# Altium integrated library ALTIUM-SMSI_SMT_STEEL_SPACER_M3_THREAD_INTERNAL-rev16b.IntLib: 84 symbols
Pins are listed as number, name and electrical type; pins without a type are passive.

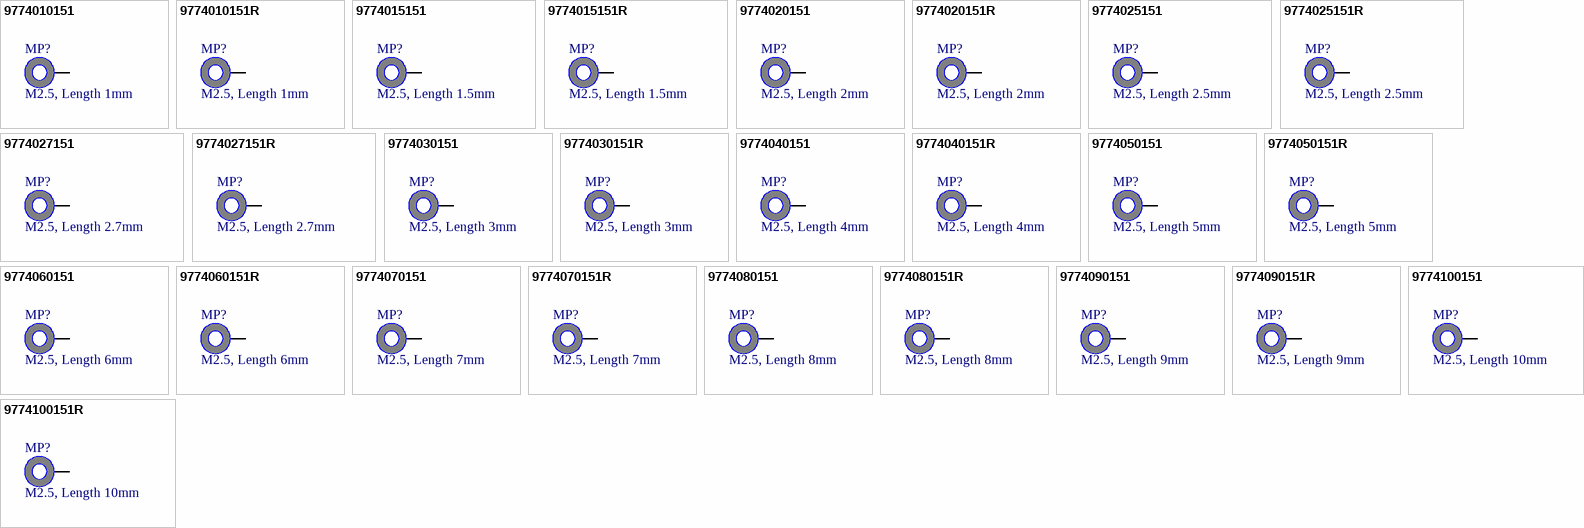
[diagram p0: symbols 9774010151 to 9774100151R]

## 9774010151
designator MP?, comment M2.5, Length 1mm
WA-SMSI SMT Steel Spacer, M2.5 Thread Internal, Length 1mm; PartNumber: 9774010151; InnerDiameter: 3.5mm; OuterDiameter: 5.1mm; PublishedDate: Dec. 2016; Publisher: Wurth Elektronik; ComponentLink1Description: Manufacturer; ComponentLink1URL: http://www.we-online.de; ComponentLink2Description: Datasheet; ComponentLink2URL: http://katalog.we-online.de/em/datasheet/9774010151.pdf; Length: 1mm; Thread: M2.5; Packaging: Bulk
footprint 9774010151
pins: 1

## 9774010151R
designator MP?, comment M2.5, Length 1mm
WA-SMSI SMT Steel Spacer, M2.5 Thread Internal, Length 1mm; PartNumber: 9774010151R; InnerDiameter: 3.5mm; OuterDiameter: 5.1mm; PublishedDate: Dec. 2016; Publisher: Wurth Elektronik; ComponentLink1Description: Manufacturer; ComponentLink1URL: http://www.we-online.de; ComponentLink2Description: Datasheet; ComponentLink2URL: http://katalog.we-online.de/em/datasheet/9774010151R.pdf; Length: 1mm; Thread: M2.5; Packaging: Tape and Reel
footprint 9774010151
pins: 1

## 9774015151
designator MP?, comment M2.5, Length 1.5mm
WA-SMSI SMT Steel Spacer, M2.5 Thread Internal, Length 1.5mm; PartNumber: 9774015151; InnerDiameter: 3.5mm; OuterDiameter: 5.1mm; PublishedDate: Dec. 2016; Publisher: Wurth Elektronik; ComponentLink1Description: Manufacturer; ComponentLink1URL: http://www.we-online.de; ComponentLink2Description: Datasheet; ComponentLink2URL: http://katalog.we-online.de/em/datasheet/9774015151.pdf; Length: 1.5mm; Thread: M2.5; Packaging: Bulk
footprint 9774015151
pins: 1

## 9774015151R
designator MP?, comment M2.5, Length 1.5mm
WA-SMSI SMT Steel Spacer, M2.5 Thread Internal, Length 1.5mm; PartNumber: 9774015151R; InnerDiameter: 3.5mm; OuterDiameter: 5.1mm; PublishedDate: Dec. 2016; Publisher: Wurth Elektronik; ComponentLink1Description: Manufacturer; ComponentLink1URL: http://www.we-online.de; ComponentLink2Description: Datasheet; ComponentLink2URL: http://katalog.we-online.de/em/datasheet/9774015151R.pdf; Length: 1.5mm; Thread: M2.5; Packaging: Tape and Reel
footprint 9774015151
pins: 1

## 9774020151
designator MP?, comment M2.5, Length 2mm
WA-SMSI SMT Steel Spacer, M2.5 Thread Internal, Length 2mm; PartNumber: 9774020151; InnerDiameter: 3.5mm; OuterDiameter: 5.1mm; PublishedDate: Dec. 2016; Publisher: Wurth Elektronik; ComponentLink1Description: Manufacturer; ComponentLink1URL: http://www.we-online.de; ComponentLink2Description: Datasheet; ComponentLink2URL: http://katalog.we-online.de/em/datasheet/9774020151.pdf; Length: 2mm; Thread: M2.5; Packaging: Bulk
footprint 9774020151
pins: 1

## 9774020151R
designator MP?, comment M2.5, Length 2mm
WA-SMSI SMT Steel Spacer, M2.5 Thread Internal, Length 2mm; PartNumber: 9774020151R; InnerDiameter: 3.5mm; OuterDiameter: 5.1mm; PublishedDate: Dec. 2016; Publisher: Wurth Elektronik; ComponentLink1Description: Manufacturer; ComponentLink1URL: http://www.we-online.de; ComponentLink2Description: Datasheet; ComponentLink2URL: http://katalog.we-online.de/em/datasheet/9774020151R.pdf; Length: 2mm; Thread: M2.5; Packaging: Tape and Reel
footprint 9774020151
pins: 1

## 9774025151
designator MP?, comment M2.5, Length 2.5mm
WA-SMSI SMT Steel Spacer, M2.5 Thread Internal, Length 2.5mm; PartNumber: 9774025151; InnerDiameter: 3.5mm; OuterDiameter: 5.1mm; PublishedDate: Dec. 2016; Publisher: Wurth Elektronik; ComponentLink1Description: Manufacturer; ComponentLink1URL: http://www.we-online.de; ComponentLink2Description: Datasheet; ComponentLink2URL: http://katalog.we-online.de/em/datasheet/9774025151.pdf; Length: 2.5mm; Thread: M2.5; Packaging: Bulk
footprint 9774025151
pins: 1

## 9774025151R
designator MP?, comment M2.5, Length 2.5mm
WA-SMSI SMT Steel Spacer, M2.5 Thread Internal, Length 2.5mm; PartNumber: 9774025151R; InnerDiameter: 3.5mm; OuterDiameter: 5.1mm; PublishedDate: Dec. 2016; Publisher: Wurth Elektronik; ComponentLink1Description: Manufacturer; ComponentLink1URL: http://www.we-online.de; ComponentLink2Description: Datasheet; ComponentLink2URL: http://katalog.we-online.de/em/datasheet/9774025151R.pdf; Length: 2.5mm; Thread: M2.5; Packaging: Tape and Reel
footprint 9774025151
pins: 1

## 9774027151
designator MP?, comment M2.5, Length 2.7mm
WA-SMSI SMT Steel Spacer, M2.5 Thread Internal, Length 2.7mm; PartNumber: 9774027151; InnerDiameter: 3.5mm; OuterDiameter: 5.1mm; PublishedDate: Dec. 2016; Publisher: Wurth Elektronik; ComponentLink1Description: Manufacturer; ComponentLink1URL: http://www.we-online.de; ComponentLink2Description: Datasheet; ComponentLink2URL: http://katalog.we-online.de/em/datasheet/9774027151.pdf; Length: 2.7mm; Thread: M2.5; Packaging: Bulk
footprint 9774027151
pins: 1

## 9774027151R
designator MP?, comment M2.5, Length 2.7mm
WA-SMSI SMT Steel Spacer, M2.5 Thread Internal, Length 2.7mm; PartNumber: 9774027151R; InnerDiameter: 3.5mm; OuterDiameter: 5.1mm; PublishedDate: Dec. 2016; Publisher: Wurth Elektronik; ComponentLink1Description: Manufacturer; ComponentLink1URL: http://www.we-online.de; ComponentLink2Description: Datasheet; ComponentLink2URL: http://katalog.we-online.de/em/datasheet/9774027151R.pdf; Length: 2.7mm; Thread: M2.5; Packaging: Tape and Reel
footprint 9774027151
pins: 1

## 9774030151
designator MP?, comment M2.5, Length 3mm
WA-SMSI SMT Steel Spacer, M2.5 Thread Internal, Length 3mm; PartNumber: 9774030151; InnerDiameter: 3.5mm; OuterDiameter: 5.1mm; PublishedDate: Dec. 2016; Publisher: Wurth Elektronik; ComponentLink1Description: Manufacturer; ComponentLink1URL: http://www.we-online.de; ComponentLink2Description: Datasheet; ComponentLink2URL: http://katalog.we-online.de/em/datasheet/9774030151.pdf; Length: 3mm; Thread: M2.5; Packaging: Bulk
footprint 9774030151
pins: 1

## 9774030151R
designator MP?, comment M2.5, Length 3mm
WA-SMSI SMT Steel Spacer, M2.5 Thread Internal, Length 3mm; PartNumber: 9774030151R; InnerDiameter: 3.5mm; OuterDiameter: 5.1mm; PublishedDate: Dec. 2016; Publisher: Wurth Elektronik; ComponentLink1Description: Manufacturer; ComponentLink1URL: http://www.we-online.de; ComponentLink2Description: Datasheet; ComponentLink2URL: http://katalog.we-online.de/em/datasheet/9774030151R.pdf; Length: 3mm; Thread: M2.5; Packaging: Tape and Reel
footprint 9774030151
pins: 1

## 9774040151
designator MP?, comment M2.5, Length 4mm
WA-SMSI SMT Steel Spacer, M2.5 Thread Internal, Length 4mm; PartNumber: 9774040151; InnerDiameter: 3.5mm; OuterDiameter: 5.1mm; PublishedDate: Dec. 2016; Publisher: Wurth Elektronik; ComponentLink1Description: Manufacturer; ComponentLink1URL: http://www.we-online.de; ComponentLink2Description: Datasheet; ComponentLink2URL: http://katalog.we-online.de/em/datasheet/9774040151.pdf; Length: 4mm; Thread: M2.5; Packaging: Bulk
footprint 9774040151
pins: 1

## 9774040151R
designator MP?, comment M2.5, Length 4mm
WA-SMSI SMT Steel Spacer, M2.5 Thread Internal, Length 4mm; PartNumber: 9774040151R; InnerDiameter: 3.5mm; OuterDiameter: 5.1mm; PublishedDate: Dec. 2016; Publisher: Wurth Elektronik; ComponentLink1Description: Manufacturer; ComponentLink1URL: http://www.we-online.de; ComponentLink2Description: Datasheet; ComponentLink2URL: http://katalog.we-online.de/em/datasheet/9774040151R.pdf; Length: 4mm; Thread: M2.5; Packaging: Tape and Reel
footprint 9774040151
pins: 1

## 9774050151
designator MP?, comment M2.5, Length 5mm
WA-SMSI SMT Steel Spacer, M2.5 Thread Internal, Length 5mm; PartNumber: 9774050151; InnerDiameter: 3.5mm; OuterDiameter: 5.1mm; PublishedDate: Dec. 2016; Publisher: Wurth Elektronik; ComponentLink1Description: Manufacturer; ComponentLink1URL: http://www.we-online.de; ComponentLink2Description: Datasheet; ComponentLink2URL: http://katalog.we-online.de/em/datasheet/9774050151.pdf; Length: 5mm; Thread: M2.5; Packaging: Bulk
footprint 9774050151
pins: 1

## 9774050151R
designator MP?, comment M2.5, Length 5mm
WA-SMSI SMT Steel Spacer, M2.5 Thread Internal, Length 5mm; PartNumber: 9774050151R; InnerDiameter: 3.5mm; OuterDiameter: 5.1mm; PublishedDate: Dec. 2016; Publisher: Wurth Elektronik; ComponentLink1Description: Manufacturer; ComponentLink1URL: http://www.we-online.de; ComponentLink2Description: Datasheet; ComponentLink2URL: http://katalog.we-online.de/em/datasheet/9774050151R.pdf; Length: 5mm; Thread: M2.5; Packaging: Tape and Reel
footprint 9774050151
pins: 1

## 9774060151
designator MP?, comment M2.5, Length 6mm
WA-SMSI SMT Steel Spacer, M2.5 Thread Internal, Length 6mm; PartNumber: 9774060151; InnerDiameter: 3.5mm; OuterDiameter: 5.1mm; PublishedDate: Dec. 2016; Publisher: Wurth Elektronik; ComponentLink1Description: Manufacturer; ComponentLink1URL: http://www.we-online.de; ComponentLink2Description: Datasheet; ComponentLink2URL: http://katalog.we-online.de/em/datasheet/9774060151.pdf; Length: 6mm; Thread: M2.5; Packaging: Bulk
footprint 9774060151
pins: 1

## 9774060151R
designator MP?, comment M2.5, Length 6mm
WA-SMSI SMT Steel Spacer, M2.5 Thread Internal, Length 6mm; PartNumber: 9774060151R; InnerDiameter: 3.5mm; OuterDiameter: 5.1mm; PublishedDate: Dec. 2016; Publisher: Wurth Elektronik; ComponentLink1Description: Manufacturer; ComponentLink1URL: http://www.we-online.de; ComponentLink2Description: Datasheet; ComponentLink2URL: http://katalog.we-online.de/em/datasheet/9774060151R.pdf; Length: 6mm; Thread: M2.5; Packaging: Tape and Reel
footprint 9774060151
pins: 1

## 9774070151
designator MP?, comment M2.5, Length 7mm
WA-SMSI SMT Steel Spacer, M2.5 Thread Internal, Length 7mm; PartNumber: 9774070151; InnerDiameter: 3.5mm; OuterDiameter: 5.1mm; PublishedDate: Dec. 2016; Publisher: Wurth Elektronik; ComponentLink1Description: Manufacturer; ComponentLink1URL: http://www.we-online.de; ComponentLink2Description: Datasheet; ComponentLink2URL: http://katalog.we-online.de/em/datasheet/9774070151.pdf; Length: 7mm; Thread: M2.5; Packaging: Bulk
footprint 9774070151
pins: 1

## 9774070151R
designator MP?, comment M2.5, Length 7mm
WA-SMSI SMT Steel Spacer, M2.5 Thread Internal, Length 7mm; PartNumber: 9774070151R; InnerDiameter: 3.5mm; OuterDiameter: 5.1mm; PublishedDate: Dec. 2016; Publisher: Wurth Elektronik; ComponentLink1Description: Manufacturer; ComponentLink1URL: http://www.we-online.de; ComponentLink2Description: Datasheet; ComponentLink2URL: http://katalog.we-online.de/em/datasheet/9774070151R.pdf; Length: 7mm; Thread: M2.5; Packaging: Tape and Reel
footprint 9774070151
pins: 1

## 9774080151
designator MP?, comment M2.5, Length 8mm
WA-SMSI SMT Steel Spacer, M2.5 Thread Internal, Length 8mm; PartNumber: 9774080151; InnerDiameter: 3.5mm; OuterDiameter: 5.1mm; PublishedDate: Dec. 2016; Publisher: Wurth Elektronik; ComponentLink1Description: Manufacturer; ComponentLink1URL: http://www.we-online.de; ComponentLink2Description: Datasheet; ComponentLink2URL: http://katalog.we-online.de/em/datasheet/9774080151.pdf; Length: 8mm; Thread: M2.5; Packaging: Bulk
footprint 9774080151
pins: 1

## 9774080151R
designator MP?, comment M2.5, Length 8mm
WA-SMSI SMT Steel Spacer, M2.5 Thread Internal, Length 8mm; PartNumber: 9774080151R; InnerDiameter: 3.5mm; OuterDiameter: 5.1mm; PublishedDate: Dec. 2016; Publisher: Wurth Elektronik; ComponentLink1Description: Manufacturer; ComponentLink1URL: http://www.we-online.de; ComponentLink2Description: Datasheet; ComponentLink2URL: http://katalog.we-online.de/em/datasheet/9774080151R.pdf; Length: 8mm; Thread: M2.5; Packaging: Tape and Reel
footprint 9774080151
pins: 1

## 9774090151
designator MP?, comment M2.5, Length 9mm
WA-SMSI SMT Steel Spacer, M2.5 Thread Internal, Length 9mm; PartNumber: 9774090151; InnerDiameter: 3.5mm; OuterDiameter: 5.1mm; PublishedDate: Dec. 2016; Publisher: Wurth Elektronik; ComponentLink1Description: Manufacturer; ComponentLink1URL: http://www.we-online.de; ComponentLink2Description: Datasheet; ComponentLink2URL: http://katalog.we-online.de/em/datasheet/9774090151.pdf; Length: 9mm; Thread: M2.5; Packaging: Bulk
footprint 9774090151
pins: 1

## 9774090151R
designator MP?, comment M2.5, Length 9mm
WA-SMSI SMT Steel Spacer, M2.5 Thread Internal, Length 9mm; PartNumber: 9774090151R; InnerDiameter: 3.5mm; OuterDiameter: 5.1mm; PublishedDate: Dec. 2016; Publisher: Wurth Elektronik; ComponentLink1Description: Manufacturer; ComponentLink1URL: http://www.we-online.de; ComponentLink2Description: Datasheet; ComponentLink2URL: http://katalog.we-online.de/em/datasheet/9774090151R.pdf; Length: 9mm; Thread: M2.5; Packaging: Tape and Reel
footprint 9774090151
pins: 1

## 9774100151
designator MP?, comment M2.5, Length 10mm
WA-SMSI SMT Steel Spacer, M2.5 Thread Internal, Length 10mm; PartNumber: 9774100151; InnerDiameter: 3.5mm; OuterDiameter: 5.1mm; PublishedDate: Dec. 2016; Publisher: Wurth Elektronik; ComponentLink1Description: Manufacturer; ComponentLink1URL: http://www.we-online.de; ComponentLink2Description: Datasheet; ComponentLink2URL: http://katalog.we-online.de/em/datasheet/9774100151.pdf; Length: 10mm; Thread: M2.5; Packaging: Bulk
footprint 9774100151
pins: 1

## 9774100151R
designator MP?, comment M2.5, Length 10mm
WA-SMSI SMT Steel Spacer, M2.5 Thread Internal, Length 10mm; PartNumber: 9774100151R; InnerDiameter: 3.5mm; OuterDiameter: 5.1mm; PublishedDate: Dec. 2016; Publisher: Wurth Elektronik; ComponentLink1Description: Manufacturer; ComponentLink1URL: http://www.we-online.de; ComponentLink2Description: Datasheet; ComponentLink2URL: http://katalog.we-online.de/em/datasheet/9774100151R.pdf; Length: 10mm; Thread: M2.5; Packaging: Tape and Reel
footprint 9774100151
pins: 1


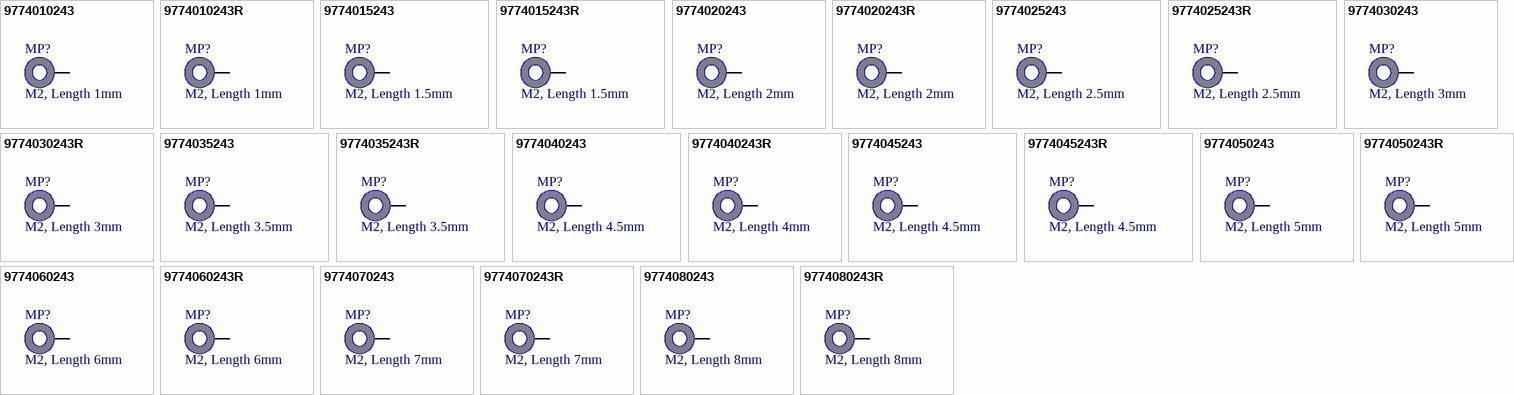
[diagram p1: symbols 9774010243 to 9774080243R]

## 9774010243
designator MP?, comment M2, Length 1mm
WA-SMSI SMT Steel Spacer, M2 Thread Internal, Length 1mm; PartNumber: 9774010243; InnerDiameter: 2.8mm; OuterDiameter: 4.35mm; PublishedDate: Dec. 2016; Publisher: Wurth Elektronik; ComponentLink1Description: Manufacturer; ComponentLink1URL: http://www.we-online.de; ComponentLink2Description: Datasheet; ComponentLink2URL: http://katalog.we-online.de/em/datasheet/9774010243.pdf; Length: 1mm; Thread: M2; Packaging: Bulk
footprint 9774010243
pins: 1

## 9774010243R
designator MP?, comment M2, Length 1mm
WA-SMSI SMT Steel Spacer, M2 Thread Internal, Length 1mm; PartNumber: 9774010243R; InnerDiameter: 2.8mm; OuterDiameter: 4.35mm; PublishedDate: Dec. 2016; Publisher: Wurth Elektronik; ComponentLink1Description: Manufacturer; ComponentLink1URL: http://www.we-online.de; ComponentLink2Description: Datasheet; ComponentLink2URL: http://katalog.we-online.de/em/datasheet/9774010243R.pdf; Length: 1mm; Thread: M2; Packaging: Tape and Reel
footprint 9774010243
pins: 1

## 9774015243
designator MP?, comment M2, Length 1.5mm
WA-SMSI SMT Steel Spacer, M2 Thread Internal, Length 1.5mm; PartNumber: 9774015243; InnerDiameter: 2.8mm; OuterDiameter: 4.35mm; PublishedDate: Dec. 2016; Publisher: Wurth Elektronik; ComponentLink1Description: Manufacturer; ComponentLink1URL: http://www.we-online.de; ComponentLink2Description: Datasheet; ComponentLink2URL: http://katalog.we-online.de/em/datasheet/9774015243.pdf; Length: 1.5mm; Thread: M2; Packaging: Bulk
footprint 9774015243
pins: 1

## 9774015243R
designator MP?, comment M2, Length 1.5mm
WA-SMSI SMT Steel Spacer, M2 Thread Internal, Length 1.5mm; PartNumber: 9774015243R; InnerDiameter: 2.8mm; OuterDiameter: 4.35mm; PublishedDate: Dec. 2016; Publisher: Wurth Elektronik; ComponentLink1Description: Manufacturer; ComponentLink1URL: http://www.we-online.de; ComponentLink2Description: Datasheet; ComponentLink2URL: http://katalog.we-online.de/em/datasheet/9774015243R.pdf; Length: 1.5mm; Thread: M2; Packaging: Tape and Reel
footprint 9774015243
pins: 1

## 9774020243
designator MP?, comment M2, Length 2mm
WA-SMSI SMT Steel Spacer, M2 Thread Internal, Length 2mm; PartNumber: 9774020243; InnerDiameter: 2.8mm; OuterDiameter: 4.35mm; PublishedDate: Dec. 2016; Publisher: Wurth Elektronik; ComponentLink1Description: Manufacturer; ComponentLink1URL: http://www.we-online.de; ComponentLink2Description: Datasheet; ComponentLink2URL: http://katalog.we-online.de/em/datasheet/9774020243.pdf; Length: 2mm; Thread: M2; Packaging: Bulk
footprint 9774020243
pins: 1

## 9774020243R
designator MP?, comment M2, Length 2mm
WA-SMSI SMT Steel Spacer, M2 Thread Internal, Length 2mm; PartNumber: 9774020243R; InnerDiameter: 2.8mm; OuterDiameter: 4.35mm; PublishedDate: Dec. 2016; Publisher: Wurth Elektronik; ComponentLink1Description: Manufacturer; ComponentLink1URL: http://www.we-online.de; ComponentLink2Description: Datasheet; ComponentLink2URL: http://katalog.we-online.de/em/datasheet/9774020243R.pdf; Length: 2mm; Thread: M2; Packaging: Tape and Reel
footprint 9774020243
pins: 1

## 9774025243
designator MP?, comment M2, Length 2.5mm
WA-SMSI SMT Steel Spacer, M2 Thread Internal, Length 2.5mm; PartNumber: 9774025243; InnerDiameter: 2.8mm; OuterDiameter: 4.35mm; PublishedDate: Dec. 2016; Publisher: Wurth Elektronik; ComponentLink1Description: Manufacturer; ComponentLink1URL: http://www.we-online.de; ComponentLink2Description: Datasheet; ComponentLink2URL: http://katalog.we-online.de/em/datasheet/9774025243.pdf; Length: 2.5mm; Thread: M2; Packaging: Bulk
footprint 9774025243
pins: 1

## 9774025243R
designator MP?, comment M2, Length 2.5mm
WA-SMSI SMT Steel Spacer, M2 Thread Internal, Length 2.5mm; PartNumber: 9774025243R; InnerDiameter: 2.8mm; OuterDiameter: 4.35mm; PublishedDate: Dec. 2016; Publisher: Wurth Elektronik; ComponentLink1Description: Manufacturer; ComponentLink1URL: http://www.we-online.de; ComponentLink2Description: Datasheet; ComponentLink2URL: http://katalog.we-online.de/em/datasheet/9774025243R.pdf; Length: 2.5mm; Thread: M2; Packaging: Tape and Reel
footprint 9774025243
pins: 1

## 9774030243
designator MP?, comment M2, Length 3mm
WA-SMSI SMT Steel Spacer, M2 Thread Internal, Length 3mm; PartNumber: 9774030243; InnerDiameter: 2.8mm; OuterDiameter: 4.35mm; PublishedDate: Dec. 2016; Publisher: Wurth Elektronik; ComponentLink1Description: Manufacturer; ComponentLink1URL: http://www.we-online.de; ComponentLink2Description: Datasheet; ComponentLink2URL: http://katalog.we-online.de/em/datasheet/9774030243.pdf; Length: 3mm; Thread: M2; Packaging: Bulk
footprint 9774030243
pins: 1

## 9774030243R
designator MP?, comment M2, Length 3mm
WA-SMSI SMT Steel Spacer, M2 Thread Internal, Length 3mm; PartNumber: 9774030243R; InnerDiameter: 2.8mm; OuterDiameter: 4.35mm; PublishedDate: Dec. 2016; Publisher: Wurth Elektronik; ComponentLink1Description: Manufacturer; ComponentLink1URL: http://www.we-online.de; ComponentLink2Description: Datasheet; ComponentLink2URL: http://katalog.we-online.de/em/datasheet/9774030243R.pdf; Length: 3mm; Thread: M2; Packaging: Tape and Reel
footprint 9774030243
pins: 1

## 9774035243
designator MP?, comment M2, Length 3.5mm
WA-SMSI SMT Steel Spacer, M2 Thread Internal, Length 3.5mm; PartNumber: 9774035243; InnerDiameter: 2.8mm; OuterDiameter: 4.35mm; PublishedDate: Dec. 2016; Publisher: Wurth Elektronik; ComponentLink1Description: Manufacturer; ComponentLink1URL: http://www.we-online.de; ComponentLink2Description: Datasheet; ComponentLink2URL: http://katalog.we-online.de/em/datasheet/9774035243.pdf; Length: 3.5mm; Thread: M2; Packaging: Bulk
footprint 9774035243
pins: 1

## 9774035243R
designator MP?, comment M2, Length 3.5mm
WA-SMSI SMT Steel Spacer, M2 Thread Internal, Length 3.5mm; PartNumber: 9774035243R; InnerDiameter: 2.8mm; OuterDiameter: 4.35mm; PublishedDate: Dec. 2016; Publisher: Wurth Elektronik; ComponentLink1Description: Manufacturer; ComponentLink1URL: http://www.we-online.de; ComponentLink2Description: Datasheet; ComponentLink2URL: http://katalog.we-online.de/em/datasheet/9774035243R.pdf; Length: 3.5mm; Thread: M2; Packaging: Tape and Reel
footprint 9774035243
pins: 1

## 9774040243
designator MP?, comment M2, Length 4.5mm
WA-SMSI SMT Steel Spacer, M2 Thread Internal, Length 4mm; PartNumber: 9774040243; InnerDiameter: 2.8mm; OuterDiameter: 4.35mm; PublishedDate: Dec. 2016; Publisher: Wurth Elektronik; ComponentLink1Description: Manufacturer; ComponentLink1URL: http://www.we-online.de; ComponentLink2Description: Datasheet; ComponentLink2URL: http://katalog.we-online.de/em/datasheet/9774040243.pdf; Length: 4mm; Thread: M2; Packaging: Bulk
footprint 9774040243
pins: 1

## 9774040243R
designator MP?, comment M2, Length 4mm
WA-SMSI SMT Steel Spacer, M2 Thread Internal, Length 4mm; PartNumber: 9774040243R; InnerDiameter: 2.8mm; OuterDiameter: 4.35mm; PublishedDate: Dec. 2016; Publisher: Wurth Elektronik; ComponentLink1Description: Manufacturer; ComponentLink1URL: http://www.we-online.de; ComponentLink2Description: Datasheet; ComponentLink2URL: http://katalog.we-online.de/em/datasheet/9774040243R.pdf; Length: 4mm; Thread: M2; Packaging: Tape and Reel
footprint 9774040243
pins: 1

## 9774045243
designator MP?, comment M2, Length 4.5mm
WA-SMSI SMT Steel Spacer, M2 Thread Internal, Length 4.5mm; PartNumber: 9774045243; InnerDiameter: 2.8mm; OuterDiameter: 4.35mm; PublishedDate: Dec. 2016; Publisher: Wurth Elektronik; ComponentLink1Description: Manufacturer; ComponentLink1URL: http://www.we-online.de; ComponentLink2Description: Datasheet; ComponentLink2URL: http://katalog.we-online.de/em/datasheet/9774045243.pdf; Length: 4.5mm; Thread: M2; Packaging: Bulk
footprint 9774045243
pins: 1

## 9774045243R
designator MP?, comment M2, Length 4.5mm
WA-SMSI SMT Steel Spacer, M2 Thread Internal, Length 4.5mm; PartNumber: 9774045243R; InnerDiameter: 2.8mm; OuterDiameter: 4.35mm; PublishedDate: Dec. 2016; Publisher: Wurth Elektronik; ComponentLink1Description: Manufacturer; ComponentLink1URL: http://www.we-online.de; ComponentLink2Description: Datasheet; ComponentLink2URL: http://katalog.we-online.de/em/datasheet/9774045243R.pdf; Length: 4.5mm; Thread: M2; Packaging: Tape and Reel
footprint 9774045243
pins: 1

## 9774050243
designator MP?, comment M2, Length 5mm
WA-SMSI SMT Steel Spacer, M2 Thread Internal, Length 5mm; PartNumber: 9774050243; InnerDiameter: 2.8mm; OuterDiameter: 4.35mm; PublishedDate: Dec. 2016; Publisher: Wurth Elektronik; ComponentLink1Description: Manufacturer; ComponentLink1URL: http://www.we-online.de; ComponentLink2Description: Datasheet; ComponentLink2URL: http://katalog.we-online.de/em/datasheet/9774050243.pdf; Length: 5mm; Thread: M2; Packaging: Bulk
footprint 9774050243
pins: 1

## 9774050243R
designator MP?, comment M2, Length 5mm
WA-SMSI SMT Steel Spacer, M2 Thread Internal, Length 5mm; PartNumber: 9774050243R; InnerDiameter: 2.8mm; OuterDiameter: 4.35mm; PublishedDate: Dec. 2016; Publisher: Wurth Elektronik; ComponentLink1Description: Manufacturer; ComponentLink1URL: http://www.we-online.de; ComponentLink2Description: Datasheet; ComponentLink2URL: http://katalog.we-online.de/em/datasheet/9774050243R.pdf; Length: 5mm; Thread: M2; Packaging: Tape and Reel
footprint 9774050243
pins: 1

## 9774060243
designator MP?, comment M2, Length 6mm
WA-SMSI SMT Steel Spacer, M2 Thread Internal, Length 6mm; PartNumber: 9774060243; InnerDiameter: 2.8mm; OuterDiameter: 4.35mm; PublishedDate: Dec. 2016; Publisher: Wurth Elektronik; ComponentLink1Description: Manufacturer; ComponentLink1URL: http://www.we-online.de; ComponentLink2Description: Datasheet; ComponentLink2URL: http://katalog.we-online.de/em/datasheet/9774060243.pdf; Length: 6mm; Thread: M2; Packaging: Bulk
footprint 9774060243
pins: 1

## 9774060243R
designator MP?, comment M2, Length 6mm
WA-SMSI SMT Steel Spacer, M2 Thread Internal, Length 6mm; PartNumber: 9774060243R; InnerDiameter: 2.8mm; OuterDiameter: 4.35mm; PublishedDate: Dec. 2016; Publisher: Wurth Elektronik; ComponentLink1Description: Manufacturer; ComponentLink1URL: http://www.we-online.de; ComponentLink2Description: Datasheet; ComponentLink2URL: http://katalog.we-online.de/em/datasheet/9774060243R.pdf; Length: 6mm; Thread: M2; Packaging: Tape and Reel
footprint 9774060243
pins: 1

## 9774070243
designator MP?, comment M2, Length 7mm
WA-SMSI SMT Steel Spacer, M2 Thread Internal, Length 7mm; PartNumber: 9774070243; InnerDiameter: 2.8mm; OuterDiameter: 4.35mm; PublishedDate: Dec. 2016; Publisher: Wurth Elektronik; ComponentLink1Description: Manufacturer; ComponentLink1URL: http://www.we-online.de; ComponentLink2Description: Datasheet; ComponentLink2URL: http://katalog.we-online.de/em/datasheet/9774070243.pdf; Length: 7mm; Thread: M2; Packaging: Bulk
footprint 9774070243
pins: 1

## 9774070243R
designator MP?, comment M2, Length 7mm
WA-SMSI SMT Steel Spacer, M2 Thread Internal, Length 7mm; PartNumber: 9774070243R; InnerDiameter: 2.8mm; OuterDiameter: 4.35mm; PublishedDate: Dec. 2016; Publisher: Wurth Elektronik; ComponentLink1Description: Manufacturer; ComponentLink1URL: http://www.we-online.de; ComponentLink2Description: Datasheet; ComponentLink2URL: http://katalog.we-online.de/em/datasheet/9774070243R.pdf; Length: 7mm; Thread: M2; Packaging: Tape and Reel
footprint 9774070243
pins: 1

## 9774080243
designator MP?, comment M2, Length 8mm
WA-SMSI SMT Steel Spacer, M2 Thread Internal, Length 8mm; PartNumber: 9774080243; InnerDiameter: 2.8mm; OuterDiameter: 4.35mm; PublishedDate: Dec. 2016; Publisher: Wurth Elektronik; ComponentLink1Description: Manufacturer; ComponentLink1URL: http://www.we-online.de; ComponentLink2Description: Datasheet; ComponentLink2URL: http://katalog.we-online.de/em/datasheet/9774080243.pdf; Length: 8mm; Thread: M2; Packaging: Bulk
footprint 9774080243
pins: 1

## 9774080243R
designator MP?, comment M2, Length 8mm
WA-SMSI SMT Steel Spacer, M2 Thread Internal, Length 8mm; PartNumber: 9774080243R; InnerDiameter: 2.8mm; OuterDiameter: 4.35mm; PublishedDate: Dec. 2016; Publisher: Wurth Elektronik; ComponentLink1Description: Manufacturer; ComponentLink1URL: http://www.we-online.de; ComponentLink2Description: Datasheet; ComponentLink2URL: http://katalog.we-online.de/em/datasheet/9774080243R.pdf; Length: 8mm; Thread: M2; Packaging: Tape and Reel
footprint 9774080243
pins: 1


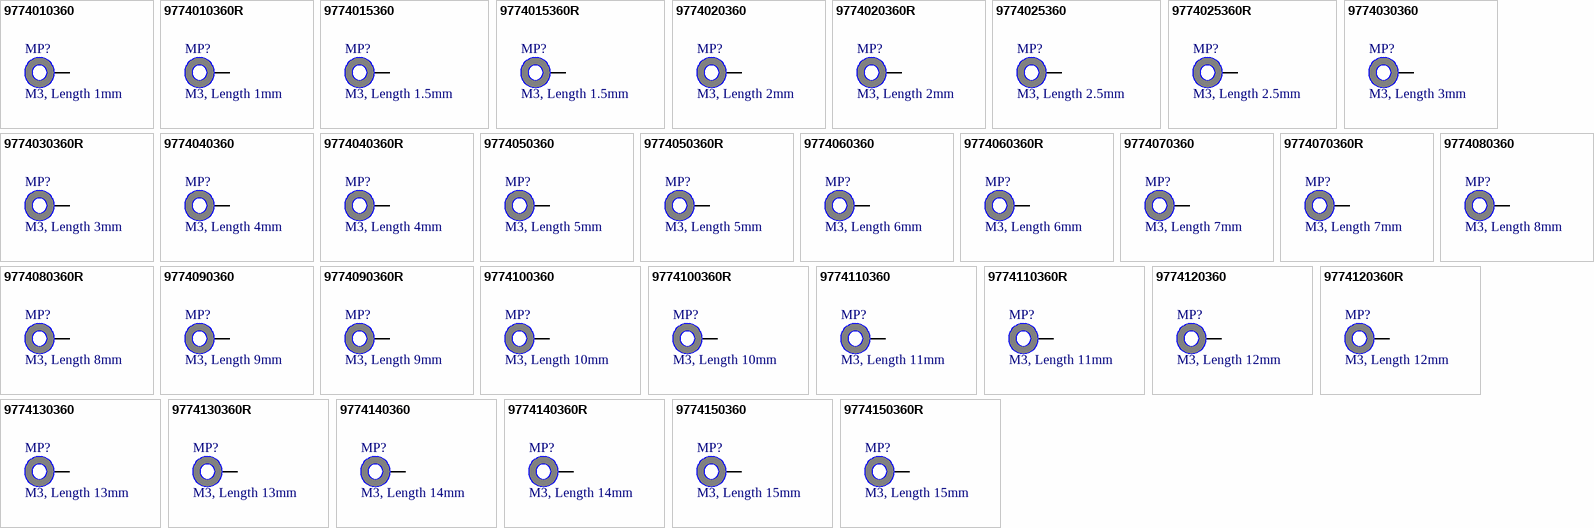
[diagram p2: symbols 9774010360 to 9774150360R]

## 9774010360
designator MP?, comment M3, Length 1mm
WA-SMSI SMT Steel Spacer, M3 Thread Internal, Length 1mm; PartNumber: 9774010360; InnerDiameter: 4.2mm; OuterDiameter: 6mm; PublishedDate: Dec. 2016; Publisher: Wurth Elektronik; ComponentLink1Description: Manufacturer; ComponentLink1URL: http://www.we-online.de; ComponentLink2Description: Datasheet; ComponentLink2URL: http://katalog.we-online.de/em/datasheet/9774010360.pdf; Length: 1mm; Thread: M3; Packaging: Bulk
footprint 9774010360
pins: 1

## 9774010360R
designator MP?, comment M3, Length 1mm
WA-SMSI SMT Steel Spacer, M3 Thread Internal, Length 1mm; PartNumber: 9774010360R; InnerDiameter: 4.2mm; OuterDiameter: 6mm; PublishedDate: Dec. 2016; Publisher: Wurth Elektronik; ComponentLink1Description: Manufacturer; ComponentLink1URL: http://www.we-online.de; ComponentLink2Description: Datasheet; ComponentLink2URL: http://katalog.we-online.de/em/datasheet/9774010360R.pdf; Length: 1mm; Thread: M3; Packaging: Tape and Reel
footprint 9774010360
pins: 1

## 9774015360
designator MP?, comment M3, Length 1.5mm
WA-SMSI SMT Steel Spacer, M3 Thread Internal, Length 1.5mm; PartNumber: 9774015360; InnerDiameter: 4.2mm; OuterDiameter: 6mm; PublishedDate: Dec. 2016; Publisher: Wurth Elektronik; ComponentLink1Description: Manufacturer; ComponentLink1URL: http://www.we-online.de; ComponentLink2Description: Datasheet; ComponentLink2URL: http://katalog.we-online.de/em/datasheet/9774015360.pdf; Length: 1.5mm; Thread: M3; Packaging: Bulk
footprint 9774015360
pins: 1

## 9774015360R
designator MP?, comment M3, Length 1.5mm
WA-SMSI SMT Steel Spacer, M3 Thread Internal, Length 1.5mm; PartNumber: 9774015360R; InnerDiameter: 4.2mm; OuterDiameter: 6mm; PublishedDate: Dec. 2016; Publisher: Wurth Elektronik; ComponentLink1Description: Manufacturer; ComponentLink1URL: http://www.we-online.de; ComponentLink2Description: Datasheet; ComponentLink2URL: http://katalog.we-online.de/em/datasheet/9774015360R.pdf; Length: 1.5mm; Thread: M3; Packaging: Tape and Reel
footprint 9774015360
pins: 1

## 9774020360
designator MP?, comment M3, Length 2mm
WA-SMSI SMT Steel Spacer, M3 Thread Internal, Length 2mm; PartNumber: 9774020360; InnerDiameter: 4.2mm; OuterDiameter: 6mm; PublishedDate: Dec. 2016; Publisher: Wurth Elektronik; ComponentLink1Description: Manufacturer; ComponentLink1URL: http://www.we-online.de; ComponentLink2Description: Datasheet; ComponentLink2URL: http://katalog.we-online.de/em/datasheet/9774020360.pdf; Length: 2mm; Thread: M3; Packaging: Bulk
footprint 9774020360
pins: 1

## 9774020360R
designator MP?, comment M3, Length 2mm
WA-SMSI SMT Steel Spacer, M3 Thread Internal, Length 2mm; PartNumber: 9774020360R; InnerDiameter: 4.2mm; OuterDiameter: 6mm; PublishedDate: Dec. 2016; Publisher: Wurth Elektronik; ComponentLink1Description: Manufacturer; ComponentLink1URL: http://www.we-online.de; ComponentLink2Description: Datasheet; ComponentLink2URL: http://katalog.we-online.de/em/datasheet/9774020360R.pdf; Length: 2mm; Thread: M3; Packaging: Tape and Reel
footprint 9774020360
pins: 1

## 9774025360
designator MP?, comment M3, Length 2.5mm
WA-SMSI SMT Steel Spacer, M3 Thread Internal, Length 2.5mm; PartNumber: 9774025360; InnerDiameter: 4.2mm; OuterDiameter: 6mm; PublishedDate: Dec. 2016; Publisher: Wurth Elektronik; ComponentLink1Description: Manufacturer; ComponentLink1URL: http://www.we-online.de; ComponentLink2Description: Datasheet; ComponentLink2URL: http://katalog.we-online.de/em/datasheet/9774025360.pdf; Length: 2.5mm; Thread: M3; Packaging: Bulk
footprint 9774025360
pins: 1

## 9774025360R
designator MP?, comment M3, Length 2.5mm
WA-SMSI SMT Steel Spacer, M3 Thread Internal, Length 2.5mm; PartNumber: 9774025360R; InnerDiameter: 4.2mm; OuterDiameter: 6mm; PublishedDate: Dec. 2016; Publisher: Wurth Elektronik; ComponentLink1Description: Manufacturer; ComponentLink1URL: http://www.we-online.de; ComponentLink2Description: Datasheet; ComponentLink2URL: http://katalog.we-online.de/em/datasheet/9774025360R.pdf; Length: 2.5mm; Thread: M3; Packaging: Tape and Reel
footprint 9774025360
pins: 1

## 9774030360
designator MP?, comment M3, Length 3mm
WA-SMSI SMT Steel Spacer, M3 Thread Internal, Length 3mm; PartNumber: 9774030360; InnerDiameter: 4.2mm; OuterDiameter: 6mm; PublishedDate: Dec. 2016; Publisher: Wurth Elektronik; ComponentLink1Description: Manufacturer; ComponentLink1URL: http://www.we-online.de; ComponentLink2Description: Datasheet; ComponentLink2URL: http://katalog.we-online.de/em/datasheet/9774030360.pdf; Length: 3mm; Thread: M3; Packaging: Bulk
footprint 9774030360
pins: 1

## 9774030360R
designator MP?, comment M3, Length 3mm
WA-SMSI SMT Steel Spacer, M3 Thread Internal, Length 3mm; PartNumber: 9774030360R; InnerDiameter: 4.2mm; OuterDiameter: 6mm; PublishedDate: Dec. 2016; Publisher: Wurth Elektronik; ComponentLink1Description: Manufacturer; ComponentLink1URL: http://www.we-online.de; ComponentLink2Description: Datasheet; ComponentLink2URL: http://katalog.we-online.de/em/datasheet/9774030360R.pdf; Length: 3mm; Thread: M3; Packaging: Tape and Reel
footprint 9774030360
pins: 1

## 9774040360
designator MP?, comment M3, Length 4mm
WA-SMSI SMT Steel Spacer, M3 Thread Internal, Length 4mm; PartNumber: 9774040360; InnerDiameter: 4.2mm; OuterDiameter: 6mm; PublishedDate: Dec. 2016; Publisher: Wurth Elektronik; ComponentLink1Description: Manufacturer; ComponentLink1URL: http://www.we-online.de; ComponentLink2Description: Datasheet; ComponentLink2URL: http://katalog.we-online.de/em/datasheet/9774040360.pdf; Length: 4mm; Thread: M3; Packaging: Bulk
footprint 9774040360
pins: 1

## 9774040360R
designator MP?, comment M3, Length 4mm
WA-SMSI SMT Steel Spacer, M3 Thread Internal, Length 4mm; PartNumber: 9774040360R; InnerDiameter: 4.2mm; OuterDiameter: 6mm; PublishedDate: Dec. 2016; Publisher: Wurth Elektronik; ComponentLink1Description: Manufacturer; ComponentLink1URL: http://www.we-online.de; ComponentLink2Description: Datasheet; ComponentLink2URL: http://katalog.we-online.de/em/datasheet/9774040360R.pdf; Length: 4mm; Thread: M3; Packaging: Tape and Reel
footprint 9774040360
pins: 1

## 9774050360
designator MP?, comment M3, Length 5mm
WA-SMSI SMT Steel Spacer, M3 Thread Internal, Length 5mm; PartNumber: 9774050360; InnerDiameter: 4.2mm; OuterDiameter: 6mm; PublishedDate: Dec. 2016; Publisher: Wurth Elektronik; ComponentLink1Description: Manufacturer; ComponentLink1URL: http://www.we-online.de; ComponentLink2Description: Datasheet; ComponentLink2URL: http://katalog.we-online.de/em/datasheet/9774050360.pdf; Length: 5mm; Thread: M3; Packaging: Bulk
footprint 9774050360
pins: 1

## 9774050360R
designator MP?, comment M3, Length 5mm
WA-SMSI SMT Steel Spacer, M3 Thread Internal, Length 5mm; PartNumber: 9774050360R; InnerDiameter: 4.2mm; OuterDiameter: 6mm; PublishedDate: Dec. 2016; Publisher: Wurth Elektronik; ComponentLink1Description: Manufacturer; ComponentLink1URL: http://www.we-online.de; ComponentLink2Description: Datasheet; ComponentLink2URL: http://katalog.we-online.de/em/datasheet/9774050360R.pdf; Length: 5mm; Thread: M3; Packaging: Tape and Reel
footprint 9774050360
pins: 1

## 9774060360
designator MP?, comment M3, Length 6mm
WA-SMSI SMT Steel Spacer, M3 Thread Internal, Length 6mm; PartNumber: 9774060360; InnerDiameter: 4.2mm; PublishedDate: Dec. 2016; Publisher: Wurth Elektronik; ComponentLink1Description: Manufacturer; ComponentLink1URL: http://www.we-online.de; ComponentLink2Description: Datasheet; ComponentLink2URL: http://katalog.we-online.de/em/datasheet/9774060360.pdf; Length: 6mm; OuterDiameter: 6mm; Thread: M3; Packaging: Bulk
footprint 9774060360
pins: 1

## 9774060360R
designator MP?, comment M3, Length 6mm
WA-SMSI SMT Steel Spacer, M3 Thread Internal, Length 6mm; PartNumber: 9774060360R; InnerDiameter: 4.2mm; PublishedDate: Dec. 2016; Publisher: Wurth Elektronik; ComponentLink1Description: Manufacturer; ComponentLink1URL: http://www.we-online.de; ComponentLink2Description: Datasheet; ComponentLink2URL: http://katalog.we-online.de/em/datasheet/9774060360R.pdf; Length: 6mm; OuterDiameter: 6mm; Thread: M3; Packaging: Tape and Reel
footprint 9774060360
pins: 1

## 9774070360
designator MP?, comment M3, Length 7mm
WA-SMSI SMT Steel Spacer, M3 Thread Internal, Length 7mm; PartNumber: 9774070360; InnerDiameter: 4.2mm; OuterDiameter: 6mm; PublishedDate: Dec. 2016; Publisher: Wurth Elektronik; ComponentLink1Description: Manufacturer; ComponentLink1URL: http://www.we-online.de; ComponentLink2Description: Datasheet; ComponentLink2URL: http://katalog.we-online.de/em/datasheet/9774070360.pdf; Length: 7mm; Thread: M3; Packaging: Bulk
footprint 9774070360
pins: 1

## 9774070360R
designator MP?, comment M3, Length 7mm
WA-SMSI SMT Steel Spacer, M3 Thread Internal, Length 7mm; PartNumber: 9774070360R; InnerDiameter: 4.2mm; OuterDiameter: 6mm; PublishedDate: Dec. 2016; Publisher: Wurth Elektronik; ComponentLink1Description: Manufacturer; ComponentLink1URL: http://www.we-online.de; ComponentLink2Description: Datasheet; ComponentLink2URL: http://katalog.we-online.de/em/datasheet/9774070360R.pdf; Length: 7mm; Thread: M3; Packaging: Tape and Reel
footprint 9774070360
pins: 1

## 9774080360
designator MP?, comment M3, Length 8mm
WA-SMSI SMT Steel Spacer, M3 Thread Internal, Length 8mm; PartNumber: 9774080360; InnerDiameter: 4.2mm; OuterDiameter: 6mm; PublishedDate: Dec. 2016; Publisher: Wurth Elektronik; ComponentLink1Description: Manufacturer; ComponentLink1URL: http://www.we-online.de; ComponentLink2Description: Datasheet; ComponentLink2URL: http://katalog.we-online.de/em/datasheet/9774080360.pdf; Length: 8mm; Thread: M3; Packaging: Bulk
footprint 9774080360
pins: 1

## 9774080360R
designator MP?, comment M3, Length 8mm
WA-SMSI SMT Steel Spacer, M3 Thread Internal, Length 8mm; PartNumber: 9774080360R; InnerDiameter: 4.2mm; OuterDiameter: 6mm; PublishedDate: Dec. 2016; Publisher: Wurth Elektronik; ComponentLink1Description: Manufacturer; ComponentLink1URL: http://www.we-online.de; ComponentLink2Description: Datasheet; ComponentLink2URL: http://katalog.we-online.de/em/datasheet/9774080360R.pdf; Length: 8mm; Thread: M3; Packaging: Tape and Reel
footprint 9774080360
pins: 1

## 9774090360
designator MP?, comment M3, Length 9mm
WA-SMSI SMT Steel Spacer, M3 Thread Internal, Length 9mm; PartNumber: 9774090360; InnerDiameter: 4.2mm; OuterDiameter: 6mm; PublishedDate: Dec. 2016; Publisher: Wurth Elektronik; ComponentLink1Description: Manufacturer; ComponentLink1URL: http://www.we-online.de; ComponentLink2Description: Datasheet; ComponentLink2URL: http://katalog.we-online.de/em/datasheet/9774090360.pdf; Length: 9mm; Thread: M3; Packaging: Bulk
footprint 9774090360
pins: 1

## 9774090360R
designator MP?, comment M3, Length 9mm
WA-SMSI SMT Steel Spacer, M3 Thread Internal, Length 9mm; PartNumber: 9774090360R; InnerDiameter: 4.2mm; OuterDiameter: 6mm; PublishedDate: Dec. 2016; Publisher: Wurth Elektronik; ComponentLink1Description: Manufacturer; ComponentLink1URL: http://www.we-online.de; ComponentLink2Description: Datasheet; ComponentLink2URL: http://katalog.we-online.de/em/datasheet/9774090360R.pdf; Length: 9mm; Thread: M3; Packaging: Tape and Reel
footprint 9774090360
pins: 1

## 9774100360
designator MP?, comment M3, Length 10mm
WA-SMSI SMT Steel Spacer, M3 Thread Internal, Length 10mm; PartNumber: 9774100360; InnerDiameter: 4.2mm; OuterDiameter: 6mm; PublishedDate: Dec. 2016; Publisher: Wurth Elektronik; ComponentLink1Description: Manufacturer; ComponentLink1URL: http://www.we-online.de; ComponentLink2Description: Datasheet; ComponentLink2URL: http://katalog.we-online.de/em/datasheet/9774100360.pdf; Length: 10mm; Thread: M3; Packaging: Bulk
footprint 9774100360
pins: 1

## 9774100360R
designator MP?, comment M3, Length 10mm
WA-SMSI SMT Steel Spacer, M3 Thread Internal, Length 10mm; PartNumber: 9774100360R; InnerDiameter: 4.2mm; OuterDiameter: 6mm; PublishedDate: Dec. 2016; Publisher: Wurth Elektronik; ComponentLink1Description: Manufacturer; ComponentLink1URL: http://www.we-online.de; ComponentLink2Description: Datasheet; ComponentLink2URL: http://katalog.we-online.de/em/datasheet/9774100360R.pdf; Length: 10mm; Thread: M3; Packaging: Tape and Reel
footprint 9774100360
pins: 1

## 9774110360
designator MP?, comment M3, Length 11mm
WA-SMSI SMT Steel Spacer, M3 Thread Internal, Length 11mm; PartNumber: 9774110360; InnerDiameter: 4.2mm; OuterDiameter: 6mm; PublishedDate: Dec. 2016; Publisher: Wurth Elektronik; ComponentLink1Description: Manufacturer; ComponentLink1URL: http://www.we-online.de; ComponentLink2Description: Datasheet; ComponentLink2URL: http://katalog.we-online.de/em/datasheet/9774110360.pdf; Length: 11mm; Thread: M3; Packaging: Bulk
footprint 9774110360
pins: 1

## 9774110360R
designator MP?, comment M3, Length 11mm
WA-SMSI SMT Steel Spacer, M3 Thread Internal, Length 11mm; PartNumber: 9774110360R; InnerDiameter: 4.2mm; OuterDiameter: 6mm; PublishedDate: Dec. 2016; Publisher: Wurth Elektronik; ComponentLink1Description: Manufacturer; ComponentLink1URL: http://www.we-online.de; ComponentLink2Description: Datasheet; ComponentLink2URL: http://katalog.we-online.de/em/datasheet/9774110360R.pdf; Length: 11mm; Thread: M3; Packaging: Tape and Reel
footprint 9774110360
pins: 1

## 9774120360
designator MP?, comment M3, Length 12mm
WA-SMSI SMT Steel Spacer, M3 Thread Internal, Length 12mm; PartNumber: 9774120360; InnerDiameter: 4.2mm; OuterDiameter: 6mm; PublishedDate: Dec. 2016; Publisher: Wurth Elektronik; ComponentLink1Description: Manufacturer; ComponentLink1URL: http://www.we-online.de; ComponentLink2Description: Datasheet; ComponentLink2URL: http://katalog.we-online.de/em/datasheet/9774120360.pdf; Length: 12mm; Thread: M3; Packaging: Bulk
footprint 9774120360
pins: 1

## 9774120360R
designator MP?, comment M3, Length 12mm
WA-SMSI SMT Steel Spacer, M3 Thread Internal, Length 12mm; PartNumber: 9774120360R; InnerDiameter: 4.2mm; OuterDiameter: 6mm; PublishedDate: Dec. 2016; Publisher: Wurth Elektronik; ComponentLink1Description: Manufacturer; ComponentLink1URL: http://www.we-online.de; ComponentLink2Description: Datasheet; ComponentLink2URL: http://katalog.we-online.de/em/datasheet/9774120360R.pdf; Length: 12mm; Thread: M3; Packaging: Tape and Reel
footprint 9774120360
pins: 1

## 9774130360
designator MP?, comment M3, Length 13mm
WA-SMSI SMT Steel Spacer, M3 Thread Internal, Length 13mm; PartNumber: 9774130360; InnerDiameter: 4.2mm; OuterDiameter: 6mm; PublishedDate: Dec. 2016; Publisher: Wurth Elektronik; ComponentLink1Description: Manufacturer; ComponentLink1URL: http://www.we-online.de; ComponentLink2Description: Datasheet; ComponentLink2URL: http://katalog.we-online.de/em/datasheet/9774130360.pdf; Length: 13mm; Thread: M3; Packaging: Bulk
footprint 9774130360
pins: 1

## 9774130360R
designator MP?, comment M3, Length 13mm
WA-SMSI SMT Steel Spacer, M3 Thread Internal, Length 13mm; PartNumber: 9774130360R; InnerDiameter: 4.2mm; OuterDiameter: 6mm; PublishedDate: Dec. 2016; Publisher: Wurth Elektronik; ComponentLink1Description: Manufacturer; ComponentLink1URL: http://www.we-online.de; ComponentLink2Description: Datasheet; ComponentLink2URL: http://katalog.we-online.de/em/datasheet/9774130360R.pdf; Length: 13mm; Thread: M3; Packaging: Tape and Reel
footprint 9774130360
pins: 1

## 9774140360
designator MP?, comment M3, Length 14mm
WA-SMSI SMT Steel Spacer, M3 Thread Internal, Length 14mm; PartNumber: 9774140360; InnerDiameter: 4.2mm; OuterDiameter: 6mm; PublishedDate: Dec. 2016; Publisher: Wurth Elektronik; ComponentLink1Description: Manufacturer; ComponentLink1URL: http://www.we-online.de; ComponentLink2Description: Datasheet; ComponentLink2URL: http://katalog.we-online.de/em/datasheet/9774140360.pdf; Length: 14mm; Thread: M3; Packaging: Bulk
footprint 9774140360
pins: 1

## 9774140360R
designator MP?, comment M3, Length 14mm
WA-SMSI SMT Steel Spacer, M3 Thread Internal, Length 14mm; PartNumber: 9774140360R; InnerDiameter: 4.2mm; OuterDiameter: 6mm; PublishedDate: Dec. 2016; Publisher: Wurth Elektronik; ComponentLink1Description: Manufacturer; ComponentLink1URL: http://www.we-online.de; ComponentLink2Description: Datasheet; ComponentLink2URL: http://katalog.we-online.de/em/datasheet/9774140360R.pdf; Length: 14mm; Thread: M3; Packaging: Tape and Reel
footprint 9774140360
pins: 1

## 9774150360
designator MP?, comment M3, Length 15mm
WA-SMSI SMT Steel Spacer, M3 Thread Internal, Length 15mm; PartNumber: 9774150360; InnerDiameter: 4.2mm; OuterDiameter: 6mm; PublishedDate: Dec. 2016; Publisher: Wurth Elektronik; ComponentLink1Description: Manufacturer; ComponentLink1URL: http://www.we-online.de; ComponentLink2Description: Datasheet; ComponentLink2URL: http://katalog.we-online.de/em/datasheet/9774150360.pdf; Length: 15mm; Thread: M3; Packaging: Bulk
footprint 9774150360
pins: 1

## 9774150360R
designator MP?, comment M3, Length 15mm
WA-SMSI SMT Steel Spacer, M3 Thread Internal, Length 15mm; PartNumber: 9774150360R; InnerDiameter: 4.2mm; OuterDiameter: 6mm; PublishedDate: Dec. 2016; Publisher: Wurth Elektronik; ComponentLink1Description: Manufacturer; ComponentLink1URL: http://www.we-online.de; ComponentLink2Description: Datasheet; ComponentLink2URL: http://katalog.we-online.de/em/datasheet/9774150360R.pdf; Length: 15mm; Thread: M3; Packaging: Tape and Reel
footprint 9774150360
pins: 1